# Altium schematic symbol library GRM3195C1H113JA01D.SchLib: 1 symbol
Pins are listed as number, name and electrical type; pins without a type are passive.

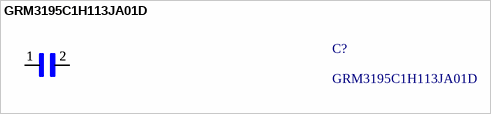
[diagram p0: symbol GRM3195C1H113JA01D]

## GRM3195C1H113JA01D
designator C?
Value: 0.011 uF
footprint GRM3195C1H113JA01D
pins: 1, 1, 2, 2